# Altium footprint library whong.PcbLib: 68 footprints (part 1 of 5)
Each footprint in its own frame and in the unit in brackets; x right, y up, seen from the top. Pads: shape width x height; smd on the part's side, far side on the other; paste and mask are expansions set on the pad; w line width, h text height; cw(c..) or ccw(c..) is an arc to the next point about the centre after c.
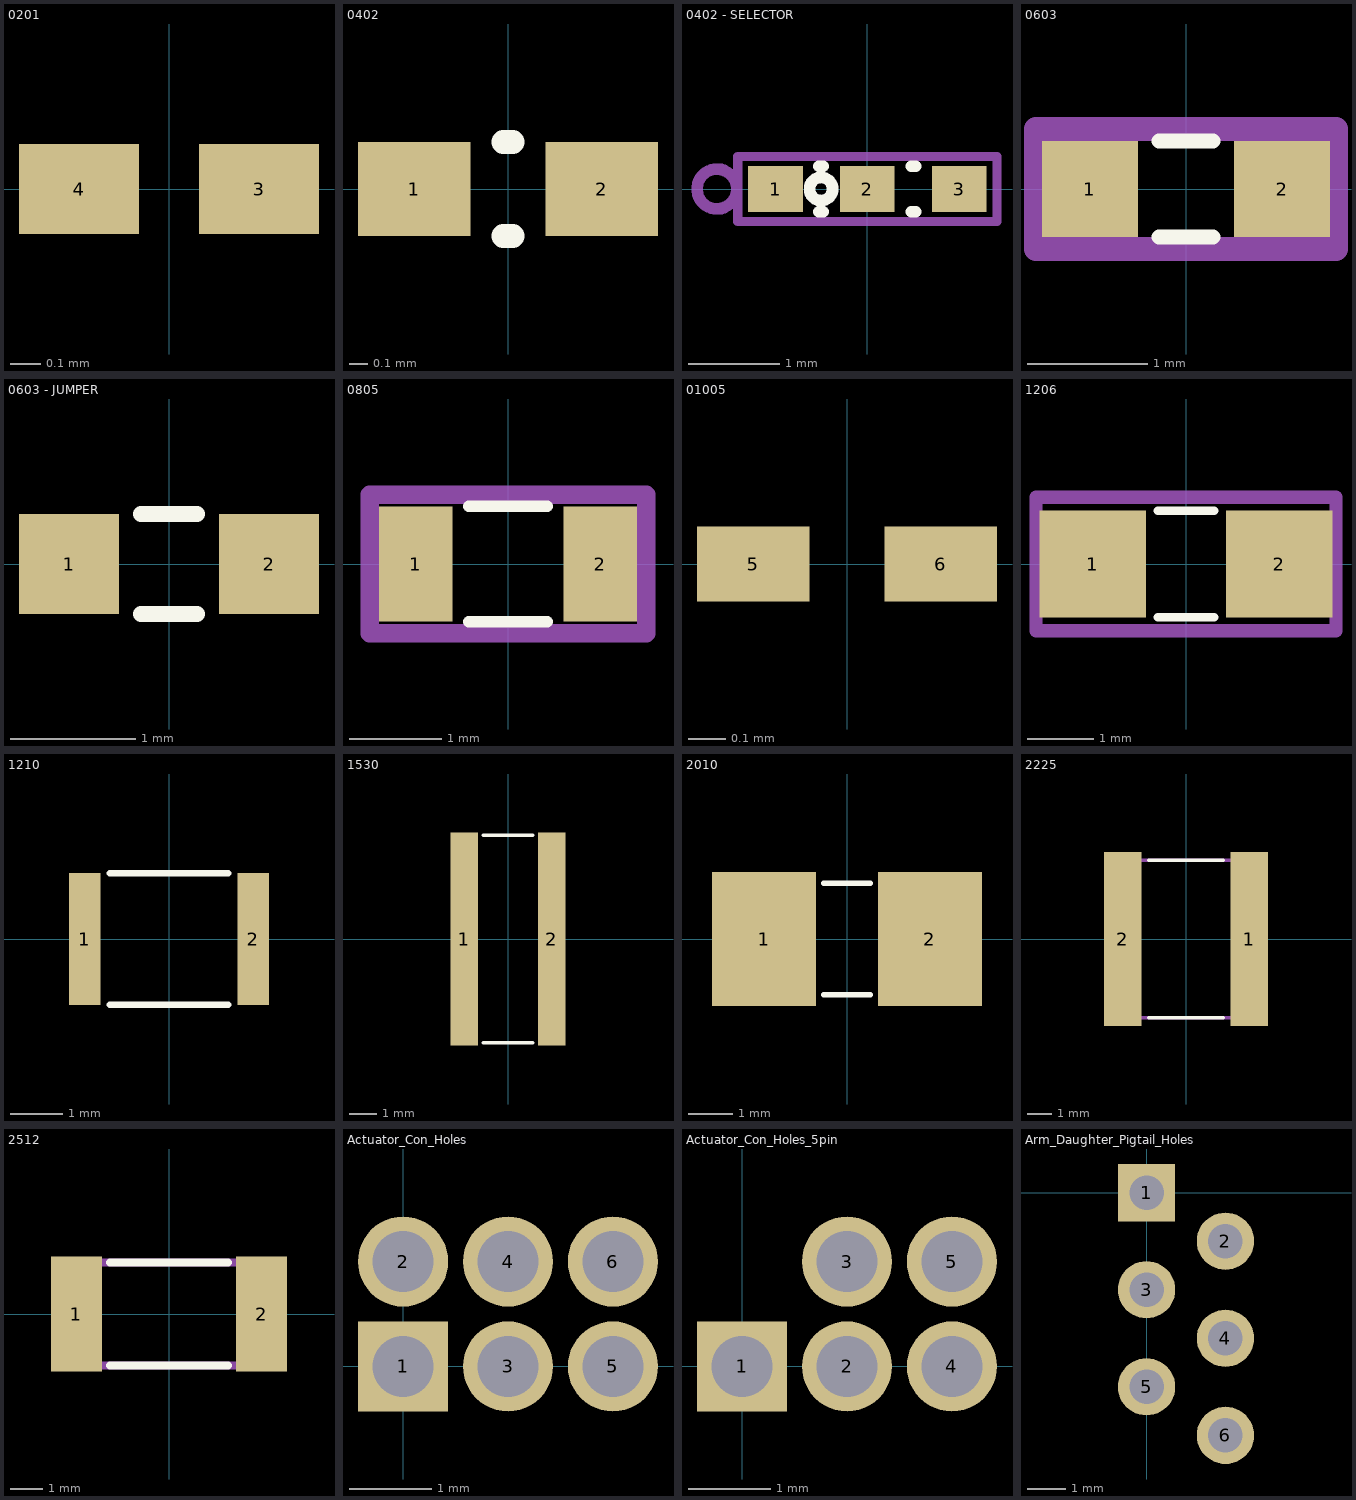
[diagram p0: the footprints below, top view; thin cyan lines are the x and y axes]

## 0201 [mm]
height 0.23
pads (2):
  rect 0.4x0.3 smd: 3(0.3,0) 4(-0.3,0)
3D body: height 0.4, standoff 0, extent -0.1,-0.15 0.1,0.15
3D body: height 0.4, standoff 0, extent 0.1,-0.15 0.3,0.15
3D body: height 0.4, standoff 0, extent -0.3,-0.15 -0.1,0.15

## 0402 [mm]
height 0.35
pads (2):
  rect 0.6x0.5 smd: 1(-0.5,0) 2(0.5,0)
Top Overlay:
  lines w0.127: -0.025,-0.25 0.025,-0.25 ; -0.025,0.25 0.025,0.25
3D body: height 0.35, standoff 0, extent -0.5,-0.25 -0.2,0.25
3D body: height 0.35, standoff 0, extent 0.2,-0.25 0.5,0.25
3D body: height 0.35, standoff 0, extent -0.2,-0.25 0.2,0.25

## 0402 - SELECTOR [mm]
height 0.35
pads (3):
  rect 0.6x0.5 smd: 1(-1.008,0) 2(0,0) 3(1.008,0)
Top Overlay:
  circle w0.127: c-0.508,0 r0.127
  lines w0.127: -0.533,-0.25 -0.483,-0.25 ; -0.533,0.25 -0.483,0.25 ; 0.483,-0.25 0.533,-0.25 ; 0.483,0.25 0.533,0.25
Mechanical 6:
  circle w0.127: c-1.651,0 r0.218
  lines w0.102: -1.422,-0.356 -1.422,0.356 1.422,0.356 1.422,-0.356 -1.422,-0.356
  text ".designator" at -1.219,-0.203 h0.38
3D body: height 0.35, standoff 0, extent -1.008,-0.25 -0.708,0.25
3D body: height 0.35, standoff 0, extent -0.708,-0.25 -0.308,0.25
3D body: height 0.35, standoff 0, extent 0.708,-0.25 1.008,0.25
3D body: height 0.35, standoff 0, extent 0.308,-0.25 0.708,0.25
3D body: height 0.35, standoff 0, extent -0.308,-0.25 -0.008,0.25
3D body: height 0.35, standoff 0, extent 0.008,-0.25 0.308,0.25

## 0603 [mm]
pads (2):
  rect 0.8x0.8 smd: 1(-0.8,0) 2(0.8,0)
Top Overlay:
  lines w0.127: -0.225,-0.4 0.225,-0.4 ; -0.225,0.4 0.225,0.4
Mechanical 6:
  lines w0.2: -1.25,-0.5 -1.25,0.5 1.25,0.5 1.25,-0.5 -1.25,-0.5
  text ".designator" at -1,-0.5 h0.76
3D body: height 0.45, standoff 0, extent -0.8,-0.4 -0.5,0.4
3D body: height 0.45, standoff 0, extent 0.5,-0.4 0.8,0.4
3D body: height 0.45, standoff 0, extent -0.5,-0.4 0.5,0.4

## 0603 - JUMPER [mm]
pads (2):
  rect 0.8x0.8 smd: 1(-0.8,0) 2(0.8,0)
Top Overlay:
  lines w0.127: -0.225,-0.4 0.225,-0.4 ; -0.225,0.4 0.225,0.4
3D body: height 0.45, standoff 0, extent -0.5,-0.4 0.5,0.4
3D body: height 0.45, standoff 0, extent 0.5,-0.4 0.8,0.4
3D body: height 0.45, standoff 0, extent -0.8,-0.4 -0.5,0.4

## 0805 [mm]
height 1.25
pads (2):
  rect 0.8x1.25 smd: 1(-1,0) 2(1,0)
Top Overlay:
  lines w0.127: -0.425,-0.625 0.425,-0.625 ; -0.425,0.625 0.425,0.625
Mechanical 6:
  lines w0.2: -1.5,-0.75 -1.5,0.75 1.5,0.75 1.5,-0.75 -1.5,-0.75
  text ".designator" at -1.25,-0.5 h0.76
3D body: height 1.25, standoff 0, extent -0.6,-0.625 0.6,0.625
3D body: height 1.25, standoff 0, extent 0.6,-0.625 1,0.625
3D body: height 1.25, standoff 0, extent -1,-0.625 -0.6,0.625

## 01005 [mm]
height 0.13
pads (2):
  rect 0.3x0.2 smd: 5(-0.25,0) 6(0.25,0)
3D body: height 0.3, standoff 0, extent -0.1,-0.1 0.1,0.1
3D body: height 0.3, standoff 0, extent 0.1,-0.1 0.2,0.1
3D body: height 0.3, standoff 0, extent -0.2,-0.1 -0.1,0.1

## 1206 [mm]
height 1.6
pads (2):
  rect 1.6x1.6 smd: 1(-1.4,0) 2(1.4,0)
Top Overlay:
  lines w0.127: -0.425,-0.8 0.425,-0.8 ; -0.425,0.8 0.425,0.8
Mechanical 6:
  lines w0.2: -2.25,-1 -2.25,1 2.25,1 2.25,-1 -2.25,-1
  text ".designator" at -1.75,-0.5 h0.76
3D body: height 1.6, standoff 0, extent -0.8,-0.8 0.8,0.8
3D body: height 1.6, standoff 0, extent -1.6,-0.8 -0.8,0.8
3D body: height 1.6, standoff 0, extent 0.8,-0.8 1.6,0.8

## 1210 [mm]
height 2.7
pads (2):
  rect 0.6x2.5 smd: 1(-1.6,0) 2(1.6,0)
Top Overlay:
  lines w0.127: -1.125,-1.25 1.125,-1.25 ; -1.125,1.25 1.125,1.25
3D body: height 2.7, standoff 0, extent -1.6,-1.25 -1.3,1.25
3D body: height 2.7, standoff 0, extent 1.3,-1.25 1.6,1.25
3D body: height 2.7, standoff 0, extent -1.3,-1.25 1.3,1.25

## 1530 [mm] "1530 passive"
height 0.5
pads (2):
  rect 1x7.8 smd: 1(-1.6,0) 2(1.6,0)
Top Overlay:
  lines w0.127: -0.9,-3.8 0.9,-3.8 ; -0.9,3.8 0.9,3.8
3D body: height 0.5, standoff 0.25, extent -1.9,-3.8 1.9,3.8
3D body: height 0.25, standoff 0, extent -1.9,-3.8 -1.3,3.8
3D body: height 0.25, standoff 0.05, extent -1.3,-3.8 1.3,3.8
3D body: height 0.25, standoff 0, extent 1.3,-3.8 1.9,3.8

## 2010 [mm]
height 0.635
pads (2):
  rect 2.36x3.05 smd: 1(-1.88,0) 2(1.88,0)
Top Overlay:
  lines w0.127: -0.525,-1.27 0.525,-1.27 ; -0.525,1.27 0.525,1.27
3D body: height 0.64, standoff 0.2, extent -1.07,-1.27 1.07,1.27
3D body: height 0.64, standoff 0, extent -2.54,-1.27 -1.07,1.27
3D body: height 0.64, standoff 0, extent 1.07,-1.27 2.54,1.27

## 2225 [mm] "2225 discrete, drawing from: http://www.vishay.com/docs/45127/vjx7r.pdf"
height 2.18
pads (2):
  rect 1.5x7 smd: 1(2.545,0) 2(-2.545,0)
Top Overlay:
  lines w0.127: -1.5,-3.175 1.5,-3.175 ; -1.5,3.175 1.5,3.175
Mechanical 1:
  lines w0.127: -2.295,-3.175 -2.295,3.175 ; 2.295,-3.175 2.295,3.175 ; -2.795,-3.175 2.795,-3.175 2.795,3.175 -2.795,3.175 -2.795,-3.175
3D body: height 2.18, standoff 0, extent -2.295,-3.175 2.295,3.175
3D body: height 2.18, standoff 0, extent -2.795,-3.175 -2.295,3.175
3D body: height 2.18, standoff 0, extent 2.295,-3.175 2.795,3.175

## 2512 [mil] "2512 passive, Drawing from: http://www.ohmite.com/catalog/pdf/hvf.pdf"
height 32
pads (2):
  rect 62x140 smd: 1(-113,0) 2(113,0)
Top Overlay:
  lines w10: -72,-63 72,-63 ; -72,63 72,63
Mechanical 1:
  lines w10: -100,-63 -100,63 ; 100,-63 100,63 ; -126,-63 -126,63 126,63 126,-63 -126,-63
3D body: height 8, standoff 0, extent 100,-63 126,63
3D body: height 8, standoff 0, extent -100,-63 100,63
3D body: height 8, standoff 0, extent -126,-63 -100,63
3D body: height 24, standoff 8, extent -126,-63 126,63
3D body: height 32, standoff 24, extent -100,-63 100,63

## Actuator_Con_Holes [mil]
pads (6):
  rect 43x43 hole 29: 1(0,0)
  round 43 hole 29: 2(0,50) 3(50,0) 4(50,50) 5(100,0) 6(100,50)

## Actuator_Con_Holes_5pin [mil]
pads (5):
  rect 43x43 hole 29: 1(0,0)
  round 43 hole 29: 2(50,0) 3(50,50) 4(100,0) 5(100,50)

## Arm_Daughter_Pigtail_Holes [mm]
pads (6):
  rect 1.5x1.5 hole 0.9: 1(0,0)
  round 1.5 hole 0.9: 2(2.064,-1.27) 3(0,-2.54) 4(2.064,-3.81) 5(0,-5.08) 6(2.064,-6.35)